# Altium footprint library MECH_HEXNUT.PcbLib: 2 footprints
Each footprint in its own frame and in the unit in brackets; x right, y up, seen from the top. Pads: shape width x height; smd on the part's side, far side on the other; paste and mask are expansions set on the pad; w line width, h text height; cw(c..) or ccw(c..) is an arc to the next point about the centre after c.
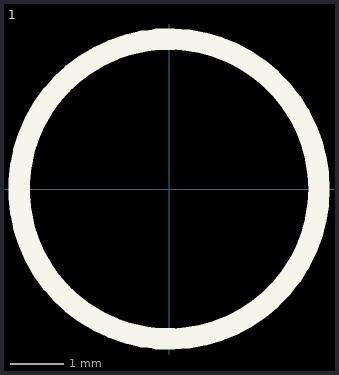
[diagram p0: the footprints below, top view; thin cyan lines are the x and y axes]

## 1 [mm] "SCREW, M2.5, 2.5mm diameter and 5.0mm PanHead"
Top Overlay:
  circle w0.4: c0,0 r2.8

## NUTHEX_M2 [mm]
3D body "M2x1.6mm Hex Nut.step": height 1.6, standoff 0, extent -2.309,-2 2.309,2